# EAGLE library part OMAT_IC_2_TPS5430 (library cpu)
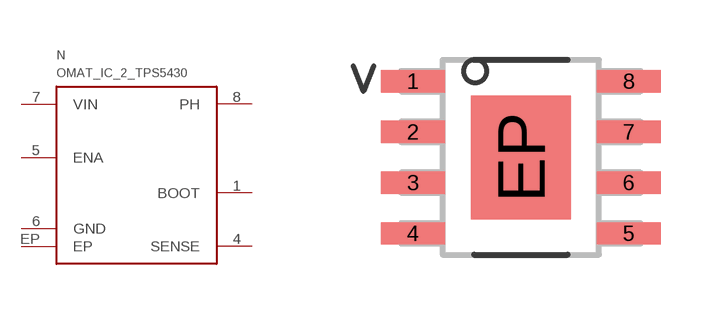
[diagram p8: symbol with the pads of OMAT_IC_2_SOIC8-N-EP; footprint OMAT_IC_2_SOIC8-N-EP]

Designator prefix N

## OMAT_IC_2_TPS5430DDA  [OMAT_IC_2_SOIC8-N-EP]
1  BOOT
4  SENSE
5  ENA
6  GND
7  VIN
8  PH
EP  EP

## Footprint OMAT_IC_2_SOIC8-N-EP (pad centres in mm)
smd 1.6 x 0.559: 1 -2.7,1.905; 2 -2.7,0.635; 3 -2.7,-0.635; 4 -2.7,-1.905; 5 2.7,-1.905; 6 2.7,-0.635; 7 2.7,0.635; 8 2.7,1.905
smd 2.5 x 3.1: EP 0,0